# Altium footprint library WR-TBL_Spring Clamp_3.81mm.PcbLib: 50 footprints (part 4 of 4)
Each footprint in its own frame and in the unit in brackets; x right, y up, seen from the top. Pads: shape width x height; smd on the part's side, far side on the other; paste and mask are expansions set on the pad; w line width, h text height; cw(c..) or ccw(c..) is an arc to the next point about the centre after c.
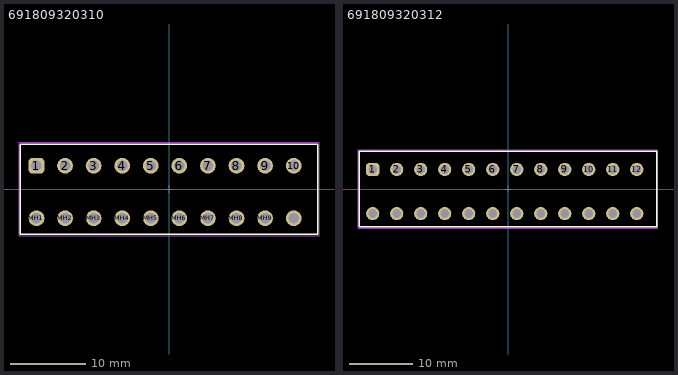
[diagram p3: the footprints below, top view; thin cyan lines are the x and y axes]

## 691809320310 [mm] "Terminal Block, Black, THR, Screwless 45deg Entry, pitch 3.81mm, 10p"
height 12.2
pads (20):
  rrect50% 2.1x2.1 hole 1.4: 1(-17.67,3.1)
  round 2.1 hole 1.4: 2(-13.86,3.1) 3(-10.05,3.1) 4(-6.24,3.1) 5(-2.43,3.1) 6(1.38,3.1) 7(5.19,3.1) 8(9,3.1) 9(12.81,3.1) 10(16.62,3.1) MH1(-17.67,-3.9) MH2(-13.86,-3.9) MH3(-10.05,-3.9) MH4(-6.24,-3.9) MH5(-2.43,-3.9) MH6(1.38,-3.9) MH7(5.19,-3.9) MH8(9,-3.9) MH9(12.81,-3.9) MH10(16.62,-3.9)
Top Overlay:
  lines w0.2: -19.8,-6 -19.8,6 19.8,6 19.8,-6 -19.8,-6
Top Assembly:
  lines w0.1: -19.8,-6 -19.8,6 19.8,6 19.8,-6 -19.8,-6
Top Designator:
  text ".Designator" at -3.647,-0.357 h1
Top 3D Body:
  lines w0.1: -19.8,-6 -19.8,6 19.8,6 19.8,-6 -19.8,-6
Top Courtyard:
  lines w0.05: -20,-6.2 -20,6.2 20,6.2 20,-6.2 -20,-6.2
Top Component Center:
  lines w0.1: -0.5,0 0.5,0 ; 0,-0.5 0,0.5
3D body "691809320310.stp": height 12.38, standoff -2.55, extent -19.83,-6 19.8,6

## 691809320312 [mm] "Terminal Block, Black, THR, Screwless 45deg Entry, pitch 3.81mm, 12p"
height 12.2
pads (24):
  rrect50% 2.1x2.1 hole 1.4: 1(-21.48,3.1)
  round 2.1 hole 1.4: 2(-17.67,3.1) 3(-13.86,3.1) 4(-10.05,3.1) 5(-6.24,3.1) 6(-2.43,3.1) 7(1.38,3.1) 8(5.19,3.1) 9(9,3.1) 10(12.81,3.1) 11(16.62,3.1) 12(20.43,3.1) MH1(-21.48,-3.9) MH2(-17.67,-3.9) MH3(-13.86,-3.9) MH4(-10.05,-3.9) MH5(-6.24,-3.9) MH6(-2.43,-3.9) MH7(1.38,-3.9) MH8(5.19,-3.9) MH9(9,-3.9) MH10(12.81,-3.9) MH11(16.62,-3.9) MH12(20.43,-3.9)
Top Overlay:
  lines w0.2: -23.61,-6 23.61,-6 23.61,6 -23.61,6 -23.61,-6
Top Assembly:
  lines w0.1: -23.61,-6 23.61,-6 23.61,6 -23.61,6 -23.61,-6
Top Designator:
  text ".Designator" at -3.647,-0.357 h1
Top 3D Body:
  lines w0.1: -23.61,-6 23.61,-6 23.61,6 -23.61,6 -23.61,-6
Top Courtyard:
  lines w0.05: -23.81,-6.2 23.81,-6.2 23.81,6.2 -23.81,6.2 -23.81,-6.2
Top Component Center:
  lines w0.1: -0.5,0 0.5,0 ; 0,-0.5 0,0.5
3D body "691809320312.stp": height 12.38, standoff -2.55, extent -23.64,-6 23.61,6